# EAGLE library part MA07-2 (library esbd-connectors)
PIN HEADER
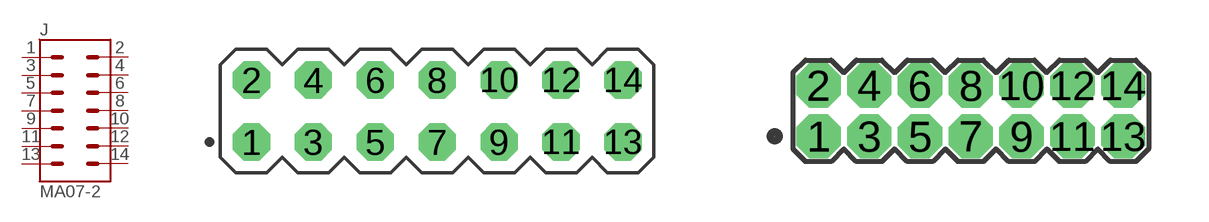
[diagram p30: symbol with the pads of MA07-2_TH_2.54MM; footprints MA07-2_TH_2.54MM, MA07-2_TH_1.27MM]

Designator prefix J

## MA07-2_TH_2.54MM  [MA07-2_TH_2.54MM]
1  1  pas
2  2  pas
3  3  pas
4  4  pas
5  5  pas
6  6  pas
7  7  pas
8  8  pas
9  9  pas
10  10  pas
11  11  pas
12  12  pas
13  13  pas
14  14  pas

## MA07-2_TH_1.27MM  [MA07-2_TH_1.27MM]
Pads as for MA07-2_TH_2.54MM

## MA07-2_SMD_1.27MM  [MA07-2_SMD_1.27MM]
Pads as for MA07-2_TH_2.54MM

## MA07-2_TH_SRH_2.54MM  [MA07-2_TH_SHR_2.54MM]
Pads as for MA07-2_TH_2.54MM

## Footprint MA07-2_TH_2.54MM (pad centres in mm)
PIN HEADER
drill 1.016 octagon: 1 -7.62,-1.27; 2 -7.62,1.27; 3 -5.08,-1.27; 4 -5.08,1.27; 5 -2.54,-1.27; 6 -2.54,1.27; 7 0,-1.27; 8 0,1.27; 9 2.54,-1.27; 10 2.54,1.27; 11 5.08,-1.27; 12 5.08,1.27; 13 7.62,-1.27; 14 7.62,1.27

## Footprint MA07-2_TH_1.27MM (pad centres in mm)
PIN HEADER
drill 0.6 octagon: 1 -3.81,-0.635; 2 -3.81,0.635; 3 -2.54,-0.635; 4 -2.54,0.635; 5 -1.27,-0.635; 6 -1.27,0.635; 7 0,-0.635; 8 0,0.635; 9 1.27,-0.635; 10 1.27,0.635; 11 2.54,-0.635; 12 2.54,0.635; 13 3.81,-0.635; 14 3.81,0.635

## Footprint MA07-2_SMD_1.27MM (pad centres in mm)
smd 0.76 x 2.4: 1 -3.81,-1.95; 2 -3.81,1.95; 3 -2.54,-1.95; 4 -2.54,1.95; 5 -1.27,-1.95; 6 -1.27,1.95; 7 0,-1.95; 8 0,1.95; 9 1.27,-1.95; 10 1.27,1.95; 11 2.54,-1.95; 12 2.54,1.95; 13 3.81,-1.95; 14 3.81,1.95

## Footprint MA07-2_TH_SHR_2.54MM (pad centres in mm)
PIN HEADER
drill 1.016 octagon: 1 -7.62,-1.27; 2 -7.62,1.27; 3 -5.08,-1.27; 4 -5.08,1.27; 5 -2.54,-1.27; 6 -2.54,1.27; 7 0,-1.27; 8 0,1.27; 9 2.54,-1.27; 10 2.54,1.27; 11 5.08,-1.27; 12 5.08,1.27; 13 7.62,-1.27; 14 7.62,1.27